# Altium schematic symbol library PEAK_SCHEM_LIB.SchLib: 27 symbols
Pins are listed as number, name and electrical type; pins without a type are passive.

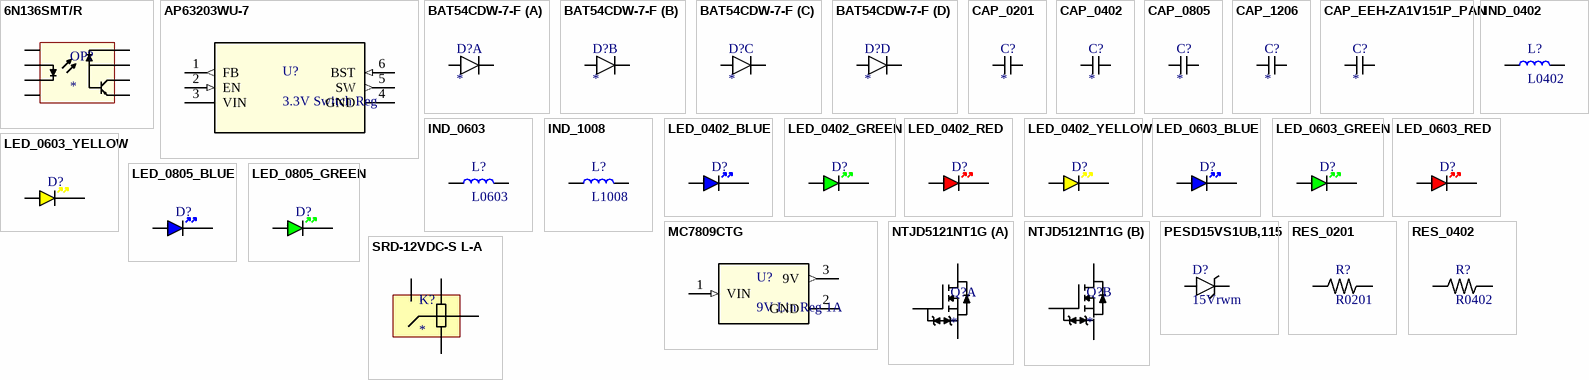
[diagram p0: symbols 6N136SMT/R to SRD-12VDC-S L-A]

## 6N136SMT/R
designator OP?
Optocouplers SMD-8 RoHS. SOP-8-2.54mm Package
footprint SOP-8-2.54mm
pins: 1 NC, 2 A, 3 C, 4 NC, 5 GND, 6 Vo, 7 Vb, 8 Vcc

## AP63203WU-7
designator U?, comment 3.3V Switch Reg
IC REG BUCK 3.3V 2A TSOT23-6
footprint AP63203WU-7
pins: 1 FB (out), 2 EN (in), 3 VIN (power), 4 GND (power), 5 SW (out), 6 BST (in)

## BAT54CDW-7-F
designator D?
2 Pairs of Common Cathode Diodes in SOT363 Package BAT54CDW-7-F
footprint SOT-363
part A pins: 1 C1, 5 A1_1
part B pins: 1 C1, 6 A1_2
part C pins: 2 A2_1, 4 C2
part D pins: 3 A2_2, 4 C2

## CAP_0201
designator C?
footprint CAP_0201
pins: 1, 2

## CAP_0402
designator C?
footprint CAP_0402
pins: 1, 2

## CAP_0805
designator C?
footprint CAP_0805
pins: 1, 2

## CAP_1206
designator C?
footprint CAP_1206
pins: 1, 2

## CAP_EEH-ZA1V151P_PAN
designator C?
footprint CAP_EEH-ZA1V151P_PAN
pins: 1, 2

## IND_0402
designator L?, comment L0402
Inductor SMD 0402
footprint IND_0402
pins: 1, 2

## IND_0603
designator L?, comment L0603
Inductor SMD 0603
footprint IND_0603
pins: 1, 2

## IND_1008
designator L?, comment L1008
Inductor SMD 1008
footprint IND_1008
pins: 1, 2

## LED_0402_BLUE
designator D?, comment BLUE  (value not drawn)
LED 0402 BLUE SMD
footprint LED_0402_BLUE
pins: A, K

## LED_0402_GREEN
designator D?, comment GREEN  (value not drawn)
LED 0402 GREEN SMD
footprint LED_0402_GREEN
pins: A, K

## LED_0402_RED
designator D?, comment RED  (value not drawn)
LED 0402 RED SMD
footprint LED_0402_RED
pins: A, K

## LED_0402_YELLOW
designator D?, comment YELLOW  (value not drawn)
LED 0402 YELLOW SMD
footprint LED_0402_YELLOW
pins: A, K

## LED_0603_BLUE
designator D?, comment BLUE  (value not drawn)
LED 0603 BLUE SMD
footprint LED_0603_BLUE
pins: A, K

## LED_0603_GREEN
designator D?, comment GREEN  (value not drawn)
LED 0603 GREEN SMD
footprint LED_0603_GREEN
pins: A, K

## LED_0603_RED
designator D?, comment RED  (value not drawn)
LED 0603 RED SMD
footprint LED_0603_RED
pins: A, K

## LED_0603_YELLOW
designator D?, comment YELLOW  (value not drawn)
LED 0603 YELLOW SMD
footprint LED_0603_YELLOW
pins: A, K

## LED_0805_BLUE
designator D?, comment BLUE  (value not drawn)
LED 0805 BLUE SMD; Manufacturer: *; Manufacturer Part Number: *; Distributor Link: *; LCSC: *
footprint LED_0805_BLUE
pins: A, K

## LED_0805_GREEN
designator D?, comment GREEN  (value not drawn)
LED 0805 GREEN SMD; Manufacturer: *; Manufacturer Part Number: *; Distributor Link: *; LCSC: *
footprint LED_0805_GREEN
pins: A, K

## MC7809CTG
designator U?, comment 9V Lin Reg 1A
IC REG LINEAR 9V 1A TO220AB
footprint MC7809CTG (IC REG LINEAR 9V 1A TO220AB)
pins: 1 VIN (in), 2 GND (power), 3 9V (out)

## NTJD5121NT1G
designator Q?
2 NMOSFETs SOT-363
footprint SOT-363
part A pins: 1 D1, 2 G1, 3 S1
part B pins: 4 D2, 5 G2, 6 S2

## PESD15VS1UB,115
designator D?, comment 15Vrwm
ESD protection (TVS) diode in SOD523 package /
footprint SOD523
pins: 1 V++, 2 GND

## RES_0201
designator R?, comment R0201
Resistor SMD 0201
footprint RES_0201
pins: 1, 2

## RES_0402
designator R?, comment R0402
Resistor SMD 0402 (0.0625W)
footprint RES_0402
pins: 1, 2

## SRD-12VDC-S L-A
designator K?
footprint SRD-12VDC-S L (Mechanical Relay)
pins: 1, 2, 3, 4